# Altium integrated library Diodes - TVS.IntLib: 5379 symbols (part 117 of 122)
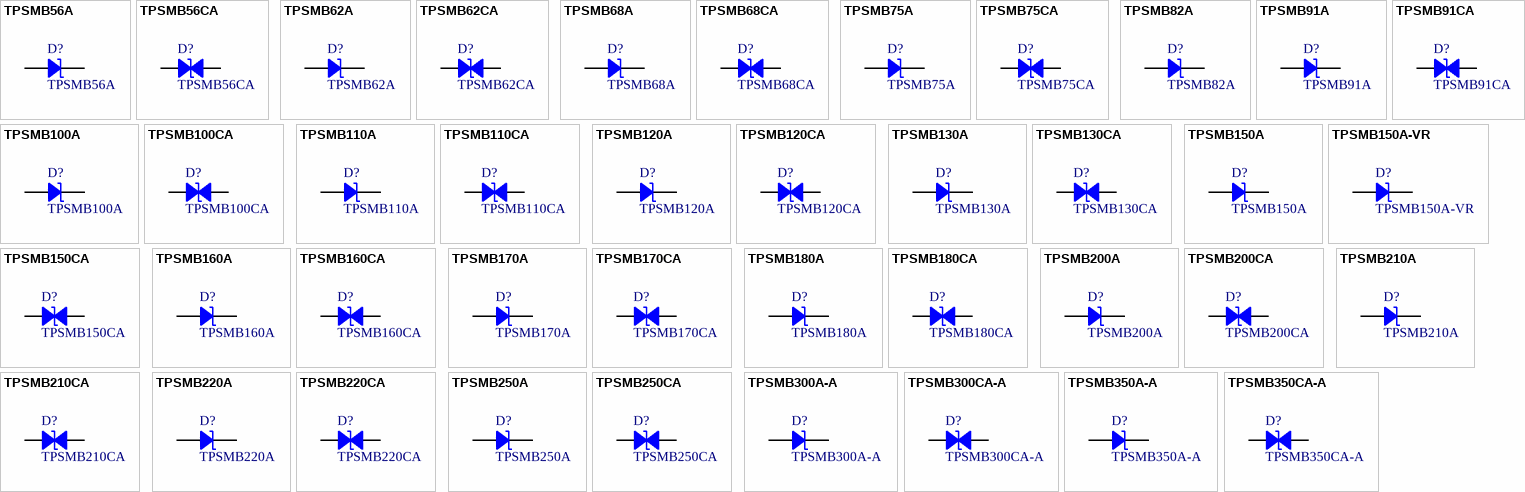
[diagram p250: symbols TPSMB56A to TPSMB350CA-A]

## TPSMB220CA
designator D?
TVS DIODE 185V 328V DO214AA; Manufacturer: Littelfuse Inc.; Bidirectional Channels: 1; Current - Peak Pulse (10/1000µs): 1.9A; Power Line Protection: No; Power - Peak Pulse: 600W; Type: Zener; Voltage - Breakdown (Min): 209V; Part Number: TPSMB220CA; Applications: Automotive; ComponentLink1Description: Datasheet; ComponentLink1URL: https://www.littelfuse.com/~/media/electronics/datasheets/tvs_diodes/littelfuse_tvs_diode_tpsmb_datasheet.pdf.pdf; ComponentLink2Description: DigiKey Link; ComponentLink2URL: http://digikey.com/product-detail/en/littelfuse-inc/TPSMB220CA/F10359CT-ND/7789876; LastUpdated: 9/2/2020 1:28:21 AM; Lifecycle Status: Active; Minimum Order: 1; Mounting Type: Surface Mount; Operating Temperature: -65°C ~ 150°C (TJ); Package / Case: DO-214AA, SMB; Packaging: TapeAndReel; PartId: 9587; Part Status: Active; Price: 0.29; Series: Automotive, AEC-Q101, TPSMB; Supplier 1: DigiKey; Supplier Part Number 1: F10359CT-ND; Supplier Device Package: DO-214AA (SMBJ); Voltage - Clamping (Max) @ Ipp: 328V; Voltage - Reverse Standoff (Typ): 185V
footprint DO214AA SMB
pins: 1, 2

## TPSMB250A
designator D?
TVS DIODE 214V 344V DO214AA; Manufacturer: Littelfuse Inc.; Current - Peak Pulse (10/1000µs): 1.8A; Power Line Protection: No; Power - Peak Pulse: 600W; Type: Zener; Unidirectional Channels: 1; Voltage - Breakdown (Min): 237V; Part Number: TPSMB250A; Applications: Automotive; ComponentLink1Description: Datasheet; ComponentLink1URL: https://www.littelfuse.com/~/media/electronics/datasheets/tvs_diodes/littelfuse_tvs_diode_tpsmb_datasheet.pdf.pdf; ComponentLink2Description: DigiKey Link; ComponentLink2URL: http://digikey.com/product-detail/en/littelfuse-inc/TPSMB250A/F10360CT-ND/7789877; LastUpdated: 9/2/2020 1:19:51 AM; Lifecycle Status: Active; Minimum Order: 1; Mounting Type: Surface Mount; Operating Temperature: -65°C ~ 150°C (TJ); Package / Case: DO-214AA, SMB; Packaging: TapeAndReel; PartId: 11354; Part Status: Active; Price: 0.29; Series: Automotive, AEC-Q101, TPSMB; Supplier 1: DigiKey; Supplier Part Number 1: F10360CT-ND; Supplier Device Package: DO-214AA (SMBJ); Voltage - Clamping (Max) @ Ipp: 344V; Voltage - Reverse Standoff (Typ): 214V
footprint DO214AA SMB
pins: 1, 2

## TPSMB250CA
designator D?
TVS DIODE 214V 344V DO214AA; Manufacturer: Littelfuse Inc.; Bidirectional Channels: 1; Current - Peak Pulse (10/1000µs): 1.8A; Power Line Protection: No; Power - Peak Pulse: 600W; Type: Zener; Voltage - Breakdown (Min): 237V; Part Number: TPSMB250CA; Applications: Automotive; ComponentLink1Description: Datasheet; ComponentLink1URL: https://www.littelfuse.com/~/media/electronics/datasheets/tvs_diodes/littelfuse_tvs_diode_tpsmb_datasheet.pdf.pdf; ComponentLink2Description: DigiKey Link; ComponentLink2URL: http://digikey.com/product-detail/en/littelfuse-inc/TPSMB250CA/F10338CT-ND/7789855; LastUpdated: 9/2/2020 1:28:22 AM; Lifecycle Status: Active; Minimum Order: 1; Mounting Type: Surface Mount; Operating Temperature: -65°C ~ 150°C (TJ); Package / Case: DO-214AA, SMB; Packaging: TapeAndReel; PartId: 9632; Part Status: Active; Price: 0.29; Series: Automotive, AEC-Q101, TPSMB; Supplier 1: DigiKey; Supplier Part Number 1: F10338CT-ND; Supplier Device Package: DO-214AA (SMBJ); Voltage - Clamping (Max) @ Ipp: 344V; Voltage - Reverse Standoff (Typ): 214V
footprint DO214AA SMB
pins: 1, 2

## TPSMB300A-A
designator D?
TVS DIODE 256V 414V DO214AA; Manufacturer: Littelfuse Inc.; Current - Peak Pulse (10/1000µs): 1.5A; Power Line Protection: No; Power - Peak Pulse: 600W; Type: Zener; Unidirectional Channels: 1; Voltage - Breakdown (Min): 285V; Part Number: TPSMB300A-A; Applications: Automotive; ComponentLink1Description: Datasheet; ComponentLink1URL: https://www.littelfuse.com/~/media/electronics/datasheets/tvs_diodes/littelfuse_tvs_diode_tpsmb_datasheet.pdf.pdf; ComponentLink2Description: DigiKey Link; ComponentLink2URL: http://digikey.com/product-detail/en/littelfuse-inc/TPSMB300A-A/F10361CT-ND/7789878; LastUpdated: 9/2/2020 1:19:50 AM; Lifecycle Status: Active; Minimum Order: 1; Mounting Type: Surface Mount; Operating Temperature: -65°C ~ 150°C (TJ); Package / Case: DO-214AA, SMB; Packaging: TapeAndReel; PartId: 11281; Part Status: Active; Price: 0.36; Series: Automotive, AEC-Q101, TPSMB; Supplier 1: DigiKey; Supplier Part Number 1: F10361CT-ND; Supplier Device Package: DO-214AA (SMBJ); Voltage - Clamping (Max) @ Ipp: 414V; Voltage - Reverse Standoff (Typ): 256V
footprint DO214AA SMB
pins: 1, 2

## TPSMB300CA-A
designator D?
TVS DIODE 256V 414V DO214AA; Manufacturer: Littelfuse Inc.; Bidirectional Channels: 1; Current - Peak Pulse (10/1000µs): 1.5A; Power Line Protection: No; Power - Peak Pulse: 600W; Type: Zener; Voltage - Breakdown (Min): 285V; Part Number: TPSMB300CA-A; Applications: Automotive; ComponentLink1Description: Datasheet; ComponentLink1URL: https://www.littelfuse.com/~/media/electronics/datasheets/tvs_diodes/littelfuse_tvs_diode_tpsmb_datasheet.pdf.pdf; ComponentLink2Description: DigiKey Link; ComponentLink2URL: http://digikey.com/product-detail/en/littelfuse-inc/TPSMB300CA-A/F10362CT-ND/7789879; LastUpdated: 9/2/2020 1:28:21 AM; Lifecycle Status: Active; Minimum Order: 1; Mounting Type: Surface Mount; Operating Temperature: -65°C ~ 150°C (TJ); Package / Case: DO-214AA, SMB; Packaging: TapeAndReel; PartId: 9575; Part Status: Active; Price: 0.37; Series: Automotive, AEC-Q101, TPSMB; Supplier 1: DigiKey; Supplier Part Number 1: F10362CT-ND; Supplier Device Package: DO-214AA (SMBJ); Voltage - Clamping (Max) @ Ipp: 414V; Voltage - Reverse Standoff (Typ): 256V
footprint DO214AA SMB
pins: 1, 2

## TPSMB350A-A
designator D?
TVS DIODE 300V 482V DO214AA; Manufacturer: Littelfuse Inc.; Current - Peak Pulse (10/1000µs): 1.3A; Power Line Protection: No; Power - Peak Pulse: 600W; Type: Zener; Unidirectional Channels: 1; Voltage - Breakdown (Min): 332V; Part Number: TPSMB350A-A; Applications: Automotive; ComponentLink1Description: Datasheet; ComponentLink1URL: https://www.littelfuse.com/~/media/electronics/datasheets/tvs_diodes/littelfuse_tvs_diode_tpsmb_datasheet.pdf.pdf; ComponentLink2Description: DigiKey Link; ComponentLink2URL: http://digikey.com/product-detail/en/littelfuse-inc/TPSMB350A-A/F10363CT-ND/7789880; LastUpdated: 9/2/2020 1:19:50 AM; Lifecycle Status: Active; Minimum Order: 1; Mounting Type: Surface Mount; Operating Temperature: -65°C ~ 150°C (TJ); Package / Case: DO-214AA, SMB; Packaging: TapeAndReel; PartId: 11274; Part Status: Active; Price: 0.36; Series: Automotive, AEC-Q101, TPSMB; Supplier 1: DigiKey; Supplier Part Number 1: F10363CT-ND; Supplier Device Package: DO-214AA (SMBJ); Voltage - Clamping (Max) @ Ipp: 482V; Voltage - Reverse Standoff (Typ): 300V
footprint DO214AA SMB
pins: 1, 2

## TPSMB350CA-A
designator D?
TVS DIODE 300V 482V DO214AA; Manufacturer: Littelfuse Inc.; Bidirectional Channels: 1; Current - Peak Pulse (10/1000µs): 1.3A; Power Line Protection: No; Power - Peak Pulse: 600W; Type: Zener; Voltage - Breakdown (Min): 332V; Part Number: TPSMB350CA-A; Applications: Automotive; ComponentLink1Description: Datasheet; ComponentLink1URL: https://www.littelfuse.com/~/media/electronics/datasheets/tvs_diodes/littelfuse_tvs_diode_tpsmb_datasheet.pdf.pdf; ComponentLink2Description: DigiKey Link; ComponentLink2URL: http://digikey.com/product-detail/en/littelfuse-inc/TPSMB350CA-A/F10364CT-ND/7789881; LastUpdated: 9/2/2020 1:28:19 AM; Lifecycle Status: Active; Minimum Order: 1; Mounting Type: Surface Mount; Operating Temperature: -65°C ~ 150°C (TJ); Package / Case: DO-214AA, SMB; Packaging: TapeAndReel; PartId: 9310; Part Status: Active; Price: 0.37; Series: Automotive, AEC-Q101, TPSMB; Supplier 1: DigiKey; Supplier Part Number 1: F10364CT-ND; Supplier Device Package: DO-214AA (SMBJ); Voltage - Clamping (Max) @ Ipp: 482V; Voltage - Reverse Standoff (Typ): 300V
footprint DO214AA SMB
pins: 1, 2

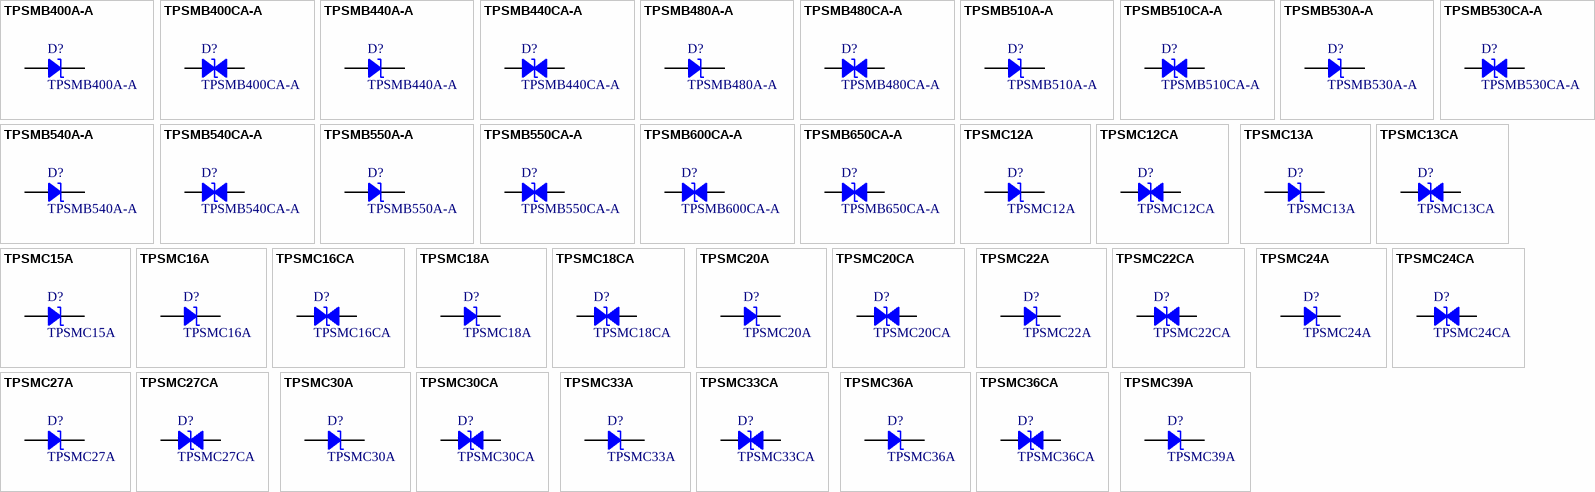
[diagram p129: symbols TPSMB400A-A to TPSMC39A]

## TPSMB400A-A
designator D?
TVS DIODE 5V 548V DO214AA; Manufacturer: Littelfuse Inc.; Current - Peak Pulse (10/1000µs): 1.1A; Power Line Protection: No; Power - Peak Pulse: 600W; Type: Zener; Unidirectional Channels: 1; Voltage - Breakdown (Min): 380V; Voltage - Reverse Standoff (Typ): 342V; Part Number: TPSMB400A-A; Applications: Automotive; ComponentLink1Description: Datasheet; ComponentLink1URL: https://www.littelfuse.com/~/media/electronics/datasheets/tvs_diodes/littelfuse_tvs_diode_tpsmb_datasheet.pdf.pdf; ComponentLink2Description: DigiKey Link; ComponentLink2URL: http://digikey.com/product-detail/en/littelfuse-inc/TPSMB400A-A/F10365CT-ND/7789882; LastUpdated: 9/2/2020 1:19:50 AM; Lifecycle Status: Active; Minimum Order: 1; Mounting Type: Surface Mount; Operating Temperature: -65°C ~ 150°C (TJ); Package / Case: DO-214AA, SMB; Packaging: TapeAndReel; PartId: 11275; Part Status: Active; Price: 0.36; Series: Automotive, AEC-Q101, TPSMB; Supplier 1: DigiKey; Supplier Part Number 1: F10365CT-ND; Supplier Device Package: DO-214AA (SMBJ); Voltage - Clamping (Max) @ Ipp: 548V
footprint DO214AA SMB
pins: 1, 2

## TPSMB400CA-A
designator D?
TVS DIODE 342V 548V DO214AA; Manufacturer: Littelfuse Inc.; Bidirectional Channels: 1; Current - Peak Pulse (10/1000µs): 1.1A; Power Line Protection: No; Power - Peak Pulse: 600W; Type: Zener; Voltage - Breakdown (Min): 380V; Part Number: TPSMB400CA-A; Applications: Automotive; ComponentLink1Description: Datasheet; ComponentLink1URL: https://www.littelfuse.com/~/media/electronics/datasheets/tvs_diodes/littelfuse_tvs_diode_tpsmb_datasheet.pdf.pdf; ComponentLink2Description: DigiKey Link; ComponentLink2URL: http://digikey.com/product-detail/en/littelfuse-inc/TPSMB400CA-A/F10366CT-ND/7789883; LastUpdated: 9/2/2020 1:28:19 AM; Lifecycle Status: Active; Minimum Order: 1; Mounting Type: Surface Mount; Operating Temperature: -65°C ~ 150°C (TJ); Package / Case: DO-214AA, SMB; Packaging: TapeAndReel; PartId: 9307; Part Status: Active; Price: 0.37; Series: Automotive, AEC-Q101, TPSMB; Supplier 1: DigiKey; Supplier Part Number 1: F10366CT-ND; Supplier Device Package: DO-214AA (SMBJ); Voltage - Clamping (Max) @ Ipp: 548V; Voltage - Reverse Standoff (Typ): 342V
footprint DO214AA SMB
pins: 1, 2

## TPSMB440A-A
designator D?
TVS DIODE 5V 602V DO214AA; Manufacturer: Littelfuse Inc.; Current - Peak Pulse (10/1000µs): 1A; Power Line Protection: No; Power - Peak Pulse: 600W; Type: Zener; Unidirectional Channels: 1; Voltage - Breakdown (Min): 418V; Voltage - Reverse Standoff (Typ): 376V; Part Number: TPSMB440A-A; Applications: Automotive; ComponentLink1Description: Datasheet; ComponentLink1URL: https://www.littelfuse.com/~/media/electronics/datasheets/tvs_diodes/littelfuse_tvs_diode_tpsmb_datasheet.pdf.pdf; ComponentLink2Description: DigiKey Link; ComponentLink2URL: http://digikey.com/product-detail/en/littelfuse-inc/TPSMB440A-A/F10339CT-ND/7789856; LastUpdated: 9/2/2020 1:19:50 AM; Lifecycle Status: Active; Minimum Order: 1; Mounting Type: Surface Mount; Operating Temperature: -65°C ~ 150°C (TJ); Package / Case: DO-214AA, SMB; Packaging: TapeAndReel; PartId: 11291; Part Status: Active; Price: 0.36; Series: Automotive, AEC-Q101, TPSMB; Supplier 1: DigiKey; Supplier Part Number 1: F10339CT-ND; Supplier Device Package: DO-214AA (SMBJ); Voltage - Clamping (Max) @ Ipp: 602V
footprint DO214AA SMB
pins: 1, 2

## TPSMB440CA-A
designator D?
TVS DIODE 376V 602V DO214AA; Manufacturer: Littelfuse Inc.; Bidirectional Channels: 1; Current - Peak Pulse (10/1000µs): 1A; Power Line Protection: No; Power - Peak Pulse: 600W; Type: Zener; Voltage - Breakdown (Min): 418V; Part Number: TPSMB440CA-A; Applications: Automotive; ComponentLink1Description: Datasheet; ComponentLink1URL: https://www.littelfuse.com/~/media/electronics/datasheets/tvs_diodes/littelfuse_tvs_diode_tpsmb_datasheet.pdf.pdf; ComponentLink2Description: DigiKey Link; ComponentLink2URL: http://digikey.com/product-detail/en/littelfuse-inc/TPSMB440CA-A/F10367CT-ND/7789884; LastUpdated: 9/2/2020 1:28:19 AM; Lifecycle Status: Active; Minimum Order: 1; Mounting Type: Surface Mount; Operating Temperature: -65°C ~ 150°C (TJ); Package / Case: DO-214AA, SMB; Packaging: TapeAndReel; PartId: 9311; Part Status: Active; Price: 0.37; Series: Automotive, AEC-Q101, TPSMB; Supplier 1: DigiKey; Supplier Part Number 1: F10367CT-ND; Supplier Device Package: DO-214AA (SMBJ); Voltage - Clamping (Max) @ Ipp: 602V; Voltage - Reverse Standoff (Typ): 376V
footprint DO214AA SMB
pins: 1, 2

## TPSMB480A-A
designator D?
TVS DIODE 5V 658V DO214AA; Manufacturer: Littelfuse Inc.; Current - Peak Pulse (10/1000µs): 900mA; Power Line Protection: No; Power - Peak Pulse: 600W; Type: Zener; Unidirectional Channels: 1; Voltage - Breakdown (Min): 456V; Voltage - Reverse Standoff (Typ): 408V; Part Number: TPSMB480A-A; Applications: Automotive; ComponentLink1Description: Datasheet; ComponentLink1URL: https://www.littelfuse.com/~/media/electronics/datasheets/tvs_diodes/littelfuse_tvs_diode_tpsmb_datasheet.pdf.pdf; ComponentLink2Description: DigiKey Link; ComponentLink2URL: http://digikey.com/product-detail/en/littelfuse-inc/TPSMB480A-A/1294-TPSMB480A-A-CHP/10261302; LastUpdated: 9/2/2020 1:19:49 AM; Lifecycle Status: Active; Minimum Order: 3000; Mounting Type: Surface Mount; Operating Temperature: -65°C ~ 150°C (TJ); Package / Case: DO-214AA, SMB; Packaging: TapeAndReel; PartId: 11152; Part Status: Active; Price: 0.28; Series: Automotive, AEC-Q101, TPSMB; Supplier 1: DigiKey; Supplier Part Number 1: 1294-TPSMB480A-A-CHP; Supplier Device Package: DO-214AA (SMBJ); Voltage - Clamping (Max) @ Ipp: 658V
footprint DO214AA SMB
pins: 1, 2

## TPSMB480CA-A
designator D?
TVS DIODE 5V 658V DO214AA; Manufacturer: Littelfuse Inc.; Bidirectional Channels: 1; Current - Peak Pulse (10/1000µs): 900mA; Power Line Protection: No; Power - Peak Pulse: 600W; Type: Zener; Voltage - Breakdown (Min): 456V; Voltage - Reverse Standoff (Typ): 408V; Part Number: TPSMB480CA-A; Applications: Automotive; ComponentLink1Description: Datasheet; ComponentLink1URL: https://www.littelfuse.com/~/media/electronics/datasheets/tvs_diodes/littelfuse_tvs_diode_tpsmb_datasheet.pdf.pdf; ComponentLink2Description: DigiKey Link; ComponentLink2URL: http://digikey.com/product-detail/en/littelfuse-inc/TPSMB480CA-A/F10368CT-ND/7789885; LastUpdated: 9/2/2020 1:28:19 AM; Lifecycle Status: Active; Minimum Order: 1; Mounting Type: Surface Mount; Operating Temperature: -65°C ~ 150°C (TJ); Package / Case: DO-214AA, SMB; Packaging: TapeAndReel; PartId: 9313; Part Status: Active; Price: 0.37; Series: Automotive, AEC-Q101, TPSMB; Supplier 1: DigiKey; Supplier Part Number 1: F10368CT-ND; Supplier Device Package: DO-214AA (SMBJ); Voltage - Clamping (Max) @ Ipp: 658V
footprint DO214AA SMB
pins: 1, 2

## TPSMB510A-A
designator D?
TVS DIODE 5V 698V DO214AA; Manufacturer: Littelfuse Inc.; Current - Peak Pulse (10/1000µs): 900mA; Power Line Protection: No; Power - Peak Pulse: 600W; Type: Zener; Unidirectional Channels: 1; Voltage - Breakdown (Min): 485V; Voltage - Reverse Standoff (Typ): 434V; Part Number: TPSMB510A-A; Applications: Automotive; ComponentLink1Description: Datasheet; ComponentLink1URL: https://www.littelfuse.com/~/media/electronics/datasheets/tvs_diodes/littelfuse_tvs_diode_tpsmb_datasheet.pdf.pdf; ComponentLink2Description: DigiKey Link; ComponentLink2URL: http://digikey.com/product-detail/en/littelfuse-inc/TPSMB510A-A/F10369CT-ND/7789886; LastUpdated: 9/2/2020 1:19:50 AM; Lifecycle Status: Active; Minimum Order: 1; Mounting Type: Surface Mount; Operating Temperature: -65°C ~ 150°C (TJ); Package / Case: DO-214AA, SMB; Packaging: TapeAndReel; PartId: 11279; Part Status: Active; Price: 0.36; Series: Automotive, AEC-Q101, TPSMB; Supplier 1: DigiKey; Supplier Part Number 1: F10369CT-ND; Supplier Device Package: DO-214AA (SMBJ); Voltage - Clamping (Max) @ Ipp: 698V
footprint DO214AA SMB
pins: 1, 2

## TPSMB510CA-A
designator D?
TVS DIODE 5V 698V DO214AA; Manufacturer: Littelfuse Inc.; Bidirectional Channels: 1; Current - Peak Pulse (10/1000µs): 900mA; Power Line Protection: No; Power - Peak Pulse: 600W; Type: Zener; Voltage - Breakdown (Min): 485V; Voltage - Reverse Standoff (Typ): 434V; Part Number: TPSMB510CA-A; Applications: Automotive; ComponentLink1Description: Datasheet; ComponentLink1URL: https://www.littelfuse.com/~/media/electronics/datasheets/tvs_diodes/littelfuse_tvs_diode_tpsmb_datasheet.pdf.pdf; ComponentLink2Description: DigiKey Link; ComponentLink2URL: http://digikey.com/product-detail/en/littelfuse-inc/TPSMB510CA-A/F10370CT-ND/7789887; LastUpdated: 9/2/2020 1:28:19 AM; Lifecycle Status: Active; Minimum Order: 1; Mounting Type: Surface Mount; Operating Temperature: -65°C ~ 150°C (TJ); Package / Case: DO-214AA, SMB; Packaging: CutTape; PartId: 9308; Part Status: Active; Price: 0.88; Series: Automotive, AEC-Q101, TPSMB; Supplier 1: DigiKey; Supplier Part Number 1: F10370CT-ND; Supplier Device Package: DO-214AA (SMBJ); Voltage - Clamping (Max) @ Ipp: 698V
footprint DO214AA SMB
pins: 1, 2

## TPSMB530A-A
designator D?
TVS DIODE 5V 725V DO214AA; Manufacturer: Littelfuse Inc.; Current - Peak Pulse (10/1000µs): 800mA; Power Line Protection: No; Power - Peak Pulse: 600W; Type: Zener; Unidirectional Channels: 1; Voltage - Breakdown (Min): 503.5V; Voltage - Reverse Standoff (Typ): 451V; Part Number: TPSMB530A-A; Applications: Automotive; ComponentLink1Description: Datasheet; ComponentLink1URL: https://www.littelfuse.com/~/media/electronics/datasheets/tvs_diodes/littelfuse_tvs_diode_tpsmb_datasheet.pdf.pdf; ComponentLink2Description: DigiKey Link; ComponentLink2URL: http://digikey.com/product-detail/en/littelfuse-inc/TPSMB530A-A/F10371CT-ND/7789888; LastUpdated: 9/2/2020 1:19:50 AM; Lifecycle Status: Active; Minimum Order: 1; Mounting Type: Surface Mount; Operating Temperature: -65°C ~ 150°C (TJ); Package / Case: DO-214AA, SMB; Packaging: CutTape; PartId: 11280; Part Status: Active; Price: 0.92; Series: Automotive, AEC-Q101, TPSMB; Supplier 1: DigiKey; Supplier Part Number 1: F10371CT-ND; Supplier Device Package: DO-214AA (SMBJ); Voltage - Clamping (Max) @ Ipp: 725V
footprint DO214AA SMB
pins: 1, 2

## TPSMB530CA-A
designator D?
TVS DIODE 5V 725V DO214AA; Manufacturer: Littelfuse Inc.; Bidirectional Channels: 1; Current - Peak Pulse (10/1000µs): 800mA; Power Line Protection: No; Power - Peak Pulse: 600W; Type: Zener; Voltage - Breakdown (Min): 503.5V; Voltage - Reverse Standoff (Typ): 451V; Part Number: TPSMB530CA-A; Applications: Automotive; ComponentLink1Description: Datasheet; ComponentLink1URL: https://www.littelfuse.com/~/media/electronics/datasheets/tvs_diodes/littelfuse_tvs_diode_tpsmb_datasheet.pdf.pdf; ComponentLink2Description: DigiKey Link; ComponentLink2URL: http://digikey.com/product-detail/en/littelfuse-inc/TPSMB530CA-A/F10372CT-ND/7789889; LastUpdated: 9/2/2020 1:28:19 AM; Lifecycle Status: Active; Minimum Order: 1; Mounting Type: Surface Mount; Operating Temperature: -65°C ~ 150°C (TJ); Package / Case: DO-214AA, SMB; Packaging: CutTape; PartId: 9312; Part Status: Active; Price: 0.88; Series: Automotive, AEC-Q101, TPSMB; Supplier 1: DigiKey; Supplier Part Number 1: F10372CT-ND; Supplier Device Package: DO-214AA (SMBJ); Voltage - Clamping (Max) @ Ipp: 725V
footprint DO214AA SMB
pins: 1, 2

## TPSMB540A-A
designator D?
TVS DIODE 5V 740V DO214AA; Manufacturer: Littelfuse Inc.; Current - Peak Pulse (10/1000µs): 800mA; Power Line Protection: No; Power - Peak Pulse: 600W; Type: Zener; Unidirectional Channels: 1; Voltage - Breakdown (Min): 513V; Voltage - Reverse Standoff (Typ): 460V; Part Number: TPSMB540A-A; Applications: Automotive; ComponentLink1Description: Datasheet; ComponentLink1URL: https://www.littelfuse.com/~/media/electronics/datasheets/tvs_diodes/littelfuse_tvs_diode_tpsmb_datasheet.pdf.pdf; ComponentLink2Description: DigiKey Link; ComponentLink2URL: http://digikey.com/product-detail/en/littelfuse-inc/TPSMB540A-A/F10373CT-ND/7789890; LastUpdated: 9/2/2020 1:19:50 AM; Lifecycle Status: Active; Minimum Order: 1; Mounting Type: Surface Mount; Operating Temperature: -65°C ~ 150°C (TJ); Package / Case: DO-214AA, SMB; Packaging: TapeAndReel; PartId: 11273; Part Status: Active; Price: 0.36; Series: Automotive, AEC-Q101, TPSMB; Supplier 1: DigiKey; Supplier Part Number 1: F10373CT-ND; Supplier Device Package: DO-214AA (SMBJ); Voltage - Clamping (Max) @ Ipp: 740V
footprint DO214AA SMB
pins: 1, 2

## TPSMB540CA-A
designator D?
TVS DIODE 5V 740V DO214AA; Manufacturer: Littelfuse Inc.; Bidirectional Channels: 1; Current - Peak Pulse (10/1000µs): 800mA; Power Line Protection: No; Power - Peak Pulse: 600W; Type: Zener; Voltage - Breakdown (Min): 513V; Voltage - Reverse Standoff (Typ): 460V; Part Number: TPSMB540CA-A; Applications: Automotive; ComponentLink1Description: Datasheet; ComponentLink1URL: https://www.littelfuse.com/~/media/electronics/datasheets/tvs_diodes/littelfuse_tvs_diode_tpsmb_datasheet.pdf.pdf; ComponentLink2Description: DigiKey Link; ComponentLink2URL: http://digikey.com/product-detail/en/littelfuse-inc/TPSMB540CA-A/F10374CT-ND/7789891; LastUpdated: 9/2/2020 1:28:19 AM; Lifecycle Status: Active; Minimum Order: 1; Mounting Type: Surface Mount; Operating Temperature: -65°C ~ 150°C (TJ); Package / Case: DO-214AA, SMB; Packaging: TapeAndReel; PartId: 9309; Part Status: Active; Price: 0.37; Series: Automotive, AEC-Q101, TPSMB; Supplier 1: DigiKey; Supplier Part Number 1: F10374CT-ND; Supplier Device Package: DO-214AA (SMBJ); Voltage - Clamping (Max) @ Ipp: 740V
footprint DO214AA SMB
pins: 1, 2

## TPSMB550A-A
designator D?
TVS DIODE 5V 760V DO214AA; Manufacturer: Littelfuse Inc.; Current - Peak Pulse (10/1000µs): 800mA; Power Line Protection: No; Power - Peak Pulse: 600W; Type: Zener; Unidirectional Channels: 1; Voltage - Breakdown (Min): 522.5V; Voltage - Reverse Standoff (Typ): 468V; Part Number: TPSMB550A-A; Applications: Automotive; ComponentLink1Description: Datasheet; ComponentLink1URL: https://www.littelfuse.com/~/media/electronics/datasheets/tvs_diodes/littelfuse_tvs_diode_tpsmb_datasheet.pdf.pdf; ComponentLink2Description: DigiKey Link; ComponentLink2URL: http://digikey.com/product-detail/en/littelfuse-inc/TPSMB550A-A/F10375CT-ND/7789892; LastUpdated: 9/2/2020 1:19:50 AM; Lifecycle Status: Active; Minimum Order: 1; Mounting Type: Surface Mount; Operating Temperature: -65°C ~ 150°C (TJ); Package / Case: DO-214AA, SMB; Packaging: TapeAndReel; PartId: 11290; Part Status: Active; Price: 0.36; Series: Automotive, AEC-Q101, TPSMB; Supplier 1: DigiKey; Supplier Part Number 1: F10375CT-ND; Supplier Device Package: DO-214AA (SMBJ); Voltage - Clamping (Max) @ Ipp: 760V
footprint DO214AA SMB
pins: 1, 2

## TPSMB550CA-A
designator D?
TVS DIODE 5V 760V DO214AA; Manufacturer: Littelfuse Inc.; Bidirectional Channels: 1; Current - Peak Pulse (10/1000µs): 800mA; Power Line Protection: No; Power - Peak Pulse: 600W; Type: Zener; Voltage - Breakdown (Min): 522.5V; Voltage - Reverse Standoff (Typ): 468V; Part Number: TPSMB550CA-A; Applications: Automotive; ComponentLink1Description: Datasheet; ComponentLink1URL: https://www.littelfuse.com/~/media/electronics/datasheets/tvs_diodes/littelfuse_tvs_diode_tpsmb_datasheet.pdf.pdf; ComponentLink2Description: DigiKey Link; ComponentLink2URL: http://digikey.com/product-detail/en/littelfuse-inc/TPSMB550CA-A/F10341CT-ND/7789858; LastUpdated: 9/2/2020 1:28:21 AM; Lifecycle Status: Active; Minimum Order: 1; Mounting Type: Surface Mount; Operating Temperature: -65°C ~ 150°C (TJ); Package / Case: DO-214AA, SMB; Packaging: TapeAndReel; PartId: 9574; Part Status: Active; Price: 0.37; Series: Automotive, AEC-Q101, TPSMB; Supplier 1: DigiKey; Supplier Part Number 1: F10341CT-ND; Supplier Device Package: DO-214AA (SMBJ); Voltage - Clamping (Max) @ Ipp: 760V
footprint DO214AA SMB
pins: 1, 2

## TPSMB600CA-A
designator D?
TVS DIODE 600VBR 828VC DO214AA; Manufacturer: Littelfuse Inc.; Bidirectional Channels: 1; Current - Peak Pulse (10/1000µs): 800mA; Power Line Protection: No; Power - Peak Pulse: 600W; Type: Zener; Voltage - Breakdown (Min): 570V; Voltage - Clamping (Max) @ Ipp: 828V; Voltage - Reverse Standoff (Typ): 511V; Part Number: TPSMB600CA-A; Applications: Automotive; ComponentLink1Description: Datasheet; ComponentLink1URL: https://www.littelfuse.com/~/media/electronics/datasheets/tvs_diodes/littelfuse_tvs_diode_tpsmb_datasheet.pdf.pdf; ComponentLink2Description: DigiKey Link; ComponentLink2URL: http://digikey.com/product-detail/en/littelfuse-inc/TPSMB600CA-A/F11765CT-ND/9682161; LastUpdated: 9/2/2020 1:28:21 AM; Lifecycle Status: Active; Minimum Order: 1; Mounting Type: Surface Mount; Operating Temperature: -65°C ~ 150°C (TJ); Package / Case: DO-214AA, SMB; Packaging: TapeAndReel; PartId: 9568; Part Status: Active; Price: 0.39; Series: Automotive, AEC-Q101, TPSMB; Supplier 1: DigiKey; Supplier Part Number 1: F11765CT-ND; Supplier Device Package: DO-214AA (SMBJ)
footprint DO214AA SMB
pins: 1, 2

## TPSMB650CA-A
designator D?
TVS DIODE 650VBR 897VC DO214AA; Manufacturer: Littelfuse Inc.; Bidirectional Channels: 1; Current - Peak Pulse (10/1000µs): 800mA; Power Line Protection: No; Power - Peak Pulse: 600W; Type: Zener; Voltage - Breakdown (Min): 617.5V; Voltage - Clamping (Max) @ Ipp: 897V; Voltage - Reverse Standoff (Typ): 553V; Part Number: TPSMB650CA-A; Applications: Automotive; ComponentLink1Description: Datasheet; ComponentLink1URL: https://www.littelfuse.com/~/media/electronics/datasheets/tvs_diodes/littelfuse_tvs_diode_tpsmb_datasheet.pdf.pdf; ComponentLink2Description: DigiKey Link; ComponentLink2URL: http://digikey.com/product-detail/en/littelfuse-inc/TPSMB650CA-A/F11766CT-ND/9682162; LastUpdated: 9/2/2020 1:28:21 AM; Lifecycle Status: Active; Minimum Order: 1; Mounting Type: Surface Mount; Operating Temperature: -65°C ~ 150°C (TJ); Package / Case: DO-214AA, SMB; Packaging: TapeAndReel; PartId: 9567; Part Status: Active; Price: 0.39; Series: Automotive, AEC-Q101, TPSMB; Supplier 1: DigiKey; Supplier Part Number 1: F11766CT-ND; Supplier Device Package: DO-214AA (SMBJ)
footprint DO214AA SMB
pins: 1, 2

## TPSMC12A
designator D?
TVS DIODE 10.2V 16.7V DO214AB; Manufacturer: Littelfuse Inc.; Current - Peak Pulse (10/1000µs): 91A; Power Line Protection: No; Power - Peak Pulse: 1500W (1.5kW); Type: Zener; Unidirectional Channels: 1; Voltage - Breakdown (Min): 11.4V; Part Number: TPSMC12A; Applications: Automotive; ComponentLink1Description: Datasheet; ComponentLink1URL: https://www.littelfuse.com/~/media/electronics/datasheets/tvs_diodes/littelfuse_tvs_diode_tpsmc_datasheet.pdf.pdf; ComponentLink2Description: DigiKey Link; ComponentLink2URL: http://digikey.com/product-detail/en/littelfuse-inc/TPSMC12A/F6513CT-ND/5044080; LastUpdated: 9/2/2020 1:20:08 AM; Lifecycle Status: Active; Minimum Order: 1; Mounting Type: Surface Mount; Operating Temperature: -55°C ~ 150°C (TJ); Package / Case: DO-214AB, SMC; Packaging: TapeAndReel; PartId: 7203; Part Status: Active; Price: 0.32; Series: Automotive, AEC-Q101, TPSMC; Supplier 1: DigiKey; Supplier Part Number 1: F6513CT-ND; Supplier Device Package: DO-214AB (SMCJ); Voltage - Clamping (Max) @ Ipp: 16.7V; Voltage - Reverse Standoff (Typ): 10.2V
footprint DO214AB SMC
pins: 1, 2

## TPSMC12CA
designator D?
TVS DIODE 10.2V 16.7V DO214AB; Manufacturer: Littelfuse Inc.; Bidirectional Channels: 1; Current - Peak Pulse (10/1000µs): 91A; Power Line Protection: No; Power - Peak Pulse: 1500W (1.5kW); Type: Zener; Voltage - Breakdown (Min): 11.4V; Part Number: TPSMC12CA; Applications: Automotive; ComponentLink1Description: Datasheet; ComponentLink1URL: https://www.littelfuse.com/~/media/electronics/datasheets/tvs_diodes/littelfuse_tvs_diode_tpsmc_datasheet.pdf.pdf; ComponentLink2Description: DigiKey Link; ComponentLink2URL: http://digikey.com/product-detail/en/littelfuse-inc/TPSMC12CA/F6514CT-ND/5044081; LastUpdated: 9/2/2020 1:28:08 AM; Lifecycle Status: Active; Minimum Order: 1; Mounting Type: Surface Mount; Operating Temperature: -55°C ~ 150°C (TJ); Package / Case: DO-214AB, SMC; Packaging: TapeAndReel; PartId: 8698; Part Status: Active; Price: 0.32; Series: Automotive, AEC-Q101, TPSMC; Supplier 1: DigiKey; Supplier Part Number 1: F6514CT-ND; Supplier Device Package: DO-214AB (SMCJ); Voltage - Clamping (Max) @ Ipp: 16.7V; Voltage - Reverse Standoff (Typ): 10.2V
footprint DO214AB SMC
pins: 1, 2

## TPSMC13A
designator D?
TVS DIODE 11.1V 18.2V DO214AB; Manufacturer: Littelfuse Inc.; Current - Peak Pulse (10/1000µs): 83.5A; Power Line Protection: No; Power - Peak Pulse: 1500W (1.5kW); Type: Zener; Unidirectional Channels: 1; Voltage - Breakdown (Min): 12.4V; Part Number: TPSMC13A; Applications: Automotive; ComponentLink1Description: Datasheet; ComponentLink1URL: https://www.littelfuse.com/~/media/electronics/datasheets/tvs_diodes/littelfuse_tvs_diode_tpsmc_datasheet.pdf.pdf; ComponentLink2Description: DigiKey Link; ComponentLink2URL: http://digikey.com/product-detail/en/littelfuse-inc/TPSMC13A/F6515CT-ND/5044082; LastUpdated: 9/2/2020 1:20:07 AM; Lifecycle Status: Active; Minimum Order: 1; Mounting Type: Surface Mount; Operating Temperature: -55°C ~ 150°C (TJ); Package / Case: DO-214AB, SMC; Packaging: TapeAndReel; PartId: 7193; Part Status: Active; Price: 0.32; Series: Automotive, AEC-Q101, TPSMC; Supplier 1: DigiKey; Supplier Part Number 1: F6515CT-ND; Supplier Device Package: DO-214AB (SMCJ); Voltage - Clamping (Max) @ Ipp: 18.2V; Voltage - Reverse Standoff (Typ): 11.1V
footprint DO214AB SMC
pins: 1, 2

## TPSMC13CA
designator D?
TVS DIODE 11.1V 18.2V DO214AB; Manufacturer: Littelfuse Inc.; Bidirectional Channels: 1; Current - Peak Pulse (10/1000µs): 83.5A; Power Line Protection: No; Power - Peak Pulse: 1500W (1.5kW); Type: Zener; Voltage - Breakdown (Min): 12.4V; Part Number: TPSMC13CA; Applications: Automotive; ComponentLink1Description: Datasheet; ComponentLink1URL: https://www.littelfuse.com/~/media/electronics/datasheets/tvs_diodes/littelfuse_tvs_diode_tpsmc_datasheet.pdf.pdf; ComponentLink2Description: DigiKey Link; ComponentLink2URL: http://digikey.com/product-detail/en/littelfuse-inc/TPSMC13CA/F6516CT-ND/5044083; LastUpdated: 9/2/2020 1:28:08 AM; Lifecycle Status: Active; Minimum Order: 1; Mounting Type: Surface Mount; Operating Temperature: -55°C ~ 150°C (TJ); Package / Case: DO-214AB, SMC; Packaging: TapeAndReel; PartId: 8695; Part Status: Active; Price: 0.32; Series: Automotive, AEC-Q101, TPSMC; Supplier 1: DigiKey; Supplier Part Number 1: F6516CT-ND; Supplier Device Package: DO-214AB (SMCJ); Voltage - Clamping (Max) @ Ipp: 18.2V; Voltage - Reverse Standoff (Typ): 11.1V
footprint DO214AB SMC
pins: 1, 2

## TPSMC15A
designator D?
TVS DIODE 12.8V 21.2V DO214AB; Manufacturer: Littelfuse Inc.; Current - Peak Pulse (10/1000µs): 71.7A; Power Line Protection: No; Power - Peak Pulse: 1500W (1.5kW); Type: Zener; Unidirectional Channels: 1; Voltage - Breakdown (Min): 14.3V; Part Number: TPSMC15A; Applications: Automotive; ComponentLink1Description: Datasheet; ComponentLink1URL: https://www.littelfuse.com/~/media/electronics/datasheets/tvs_diodes/littelfuse_tvs_diode_tpsmc_datasheet.pdf.pdf; ComponentLink2Description: DigiKey Link; ComponentLink2URL: http://digikey.com/product-detail/en/littelfuse-inc/TPSMC15A/F6517CT-ND/5044084; LastUpdated: 9/2/2020 1:20:08 AM; Lifecycle Status: Active; Minimum Order: 1; Mounting Type: Surface Mount; Operating Temperature: -55°C ~ 150°C (TJ); Package / Case: DO-214AB, SMC; Packaging: TapeAndReel; PartId: 7204; Part Status: Active; Price: 0.32; Series: Automotive, AEC-Q101, TPSMC; Supplier 1: DigiKey; Supplier Part Number 1: F6517CT-ND; Supplier Device Package: DO-214AB (SMCJ); Voltage - Clamping (Max) @ Ipp: 21.2V; Voltage - Reverse Standoff (Typ): 12.8V
footprint DO214AB SMC
pins: 1, 2

## TPSMC16A
designator D?
TVS DIODE 13.6V 22.5V DO214AB; Manufacturer: Littelfuse Inc.; Current - Peak Pulse (10/1000µs): 67.6A; Power Line Protection: No; Power - Peak Pulse: 1500W (1.5kW); Type: Zener; Unidirectional Channels: 1; Voltage - Breakdown (Min): 15.2V; Part Number: TPSMC16A; Applications: Automotive; ComponentLink1Description: Datasheet; ComponentLink1URL: https://www.littelfuse.com/~/media/electronics/datasheets/tvs_diodes/littelfuse_tvs_diode_tpsmc_datasheet.pdf.pdf; ComponentLink2Description: DigiKey Link; ComponentLink2URL: http://digikey.com/product-detail/en/littelfuse-inc/TPSMC16A/F6519CT-ND/5044086; LastUpdated: 9/2/2020 1:20:07 AM; Lifecycle Status: Active; Minimum Order: 1; Mounting Type: Surface Mount; Operating Temperature: -55°C ~ 150°C (TJ); Package / Case: DO-214AB, SMC; Packaging: TapeAndReel; PartId: 7192; Part Status: Active; Price: 0.32; Series: Automotive, AEC-Q101, TPSMC; Supplier 1: DigiKey; Supplier Part Number 1: F6519CT-ND; Supplier Device Package: DO-214AB (SMCJ); Voltage - Clamping (Max) @ Ipp: 22.5V; Voltage - Reverse Standoff (Typ): 13.6V
footprint DO214AB SMC
pins: 1, 2

## TPSMC16CA
designator D?
TVS DIODE 13.6V 22.5V DO214AB; Manufacturer: Littelfuse Inc.; Bidirectional Channels: 1; Current - Peak Pulse (10/1000µs): 67.6A; Power Line Protection: No; Power - Peak Pulse: 1500W (1.5kW); Type: Zener; Voltage - Breakdown (Min): 15.2V; Part Number: TPSMC16CA; Applications: Automotive; ComponentLink1Description: Datasheet; ComponentLink1URL: https://www.littelfuse.com/~/media/electronics/datasheets/tvs_diodes/littelfuse_tvs_diode_tpsmc_datasheet.pdf.pdf; ComponentLink2Description: DigiKey Link; ComponentLink2URL: http://digikey.com/product-detail/en/littelfuse-inc/TPSMC16CA/F6520CT-ND/5044087; LastUpdated: 9/2/2020 1:28:08 AM; Lifecycle Status: Active; Minimum Order: 1; Mounting Type: Surface Mount; Operating Temperature: -55°C ~ 150°C (TJ); Package / Case: DO-214AB, SMC; Packaging: TapeAndReel; PartId: 8699; Part Status: Active; Price: 0.32; Series: Automotive, AEC-Q101, TPSMC; Supplier 1: DigiKey; Supplier Part Number 1: F6520CT-ND; Supplier Device Package: DO-214AB (SMCJ); Voltage - Clamping (Max) @ Ipp: 22.5V; Voltage - Reverse Standoff (Typ): 13.6V
footprint DO214AB SMC
pins: 1, 2

## TPSMC18A
designator D?
TVS DIODE 15.3V 25.2V DO214AB; Manufacturer: Littelfuse Inc.; Current - Peak Pulse (10/1000µs): 60.3A; Power Line Protection: No; Power - Peak Pulse: 1500W (1.5kW); Type: Zener; Unidirectional Channels: 1; Voltage - Breakdown (Min): 17.1V; Part Number: TPSMC18A; Applications: Automotive; ComponentLink1Description: Datasheet; ComponentLink1URL: https://www.littelfuse.com/~/media/electronics/datasheets/tvs_diodes/littelfuse_tvs_diode_tpsmc_datasheet.pdf.pdf; ComponentLink2Description: DigiKey Link; ComponentLink2URL: http://digikey.com/product-detail/en/littelfuse-inc/TPSMC18A/F6521CT-ND/5044088; LastUpdated: 9/2/2020 1:20:07 AM; Lifecycle Status: Active; Minimum Order: 1; Mounting Type: Surface Mount; Operating Temperature: -55°C ~ 150°C (TJ); Package / Case: DO-214AB, SMC; Packaging: TapeAndReel; PartId: 7191; Part Status: Active; Price: 0.31; Series: Automotive, AEC-Q101, TPSMC; Supplier 1: DigiKey; Supplier Part Number 1: F6521CT-ND; Supplier Device Package: DO-214AB (SMCJ); Voltage - Clamping (Max) @ Ipp: 25.2V; Voltage - Reverse Standoff (Typ): 15.3V
footprint DO214AB SMC
pins: 1, 2

## TPSMC18CA
designator D?
TVS DIODE 15.3V 25.2V DO214AB; Manufacturer: Littelfuse Inc.; Bidirectional Channels: 1; Current - Peak Pulse (10/1000µs): 60.3A; Power Line Protection: No; Power - Peak Pulse: 1500W (1.5kW); Type: Zener; Voltage - Breakdown (Min): 17.1V; Part Number: TPSMC18CA; Applications: Automotive; ComponentLink1Description: Datasheet; ComponentLink1URL: https://www.littelfuse.com/~/media/electronics/datasheets/tvs_diodes/littelfuse_tvs_diode_tpsmc_datasheet.pdf.pdf; ComponentLink2Description: DigiKey Link; ComponentLink2URL: http://digikey.com/product-detail/en/littelfuse-inc/TPSMC18CA/F6522CT-ND/5044089; LastUpdated: 9/2/2020 1:28:08 AM; Lifecycle Status: Active; Minimum Order: 1; Mounting Type: Surface Mount; Operating Temperature: -55°C ~ 150°C (TJ); Package / Case: DO-214AB, SMC; Packaging: TapeAndReel; PartId: 8664; Part Status: Active; Price: 0.32; Series: Automotive, AEC-Q101, TPSMC; Supplier 1: DigiKey; Supplier Part Number 1: F6522CT-ND; Supplier Device Package: DO-214AB (SMCJ); Voltage - Clamping (Max) @ Ipp: 25.2V; Voltage - Reverse Standoff (Typ): 15.3V
footprint DO214AB SMC
pins: 1, 2

## TPSMC20A
designator D?
TVS DIODE 17.1V 27.7V DO214AB; Manufacturer: Littelfuse Inc.; Current - Peak Pulse (10/1000µs): 54.9A; Power Line Protection: No; Power - Peak Pulse: 1500W (1.5kW); Type: Zener; Unidirectional Channels: 1; Voltage - Breakdown (Min): 19V; Part Number: TPSMC20A; Applications: Automotive; ComponentLink1Description: Datasheet; ComponentLink1URL: https://www.littelfuse.com/~/media/electronics/datasheets/tvs_diodes/littelfuse_tvs_diode_tpsmc_datasheet.pdf.pdf; ComponentLink2Description: DigiKey Link; ComponentLink2URL: http://digikey.com/product-detail/en/littelfuse-inc/TPSMC20A/F6523CT-ND/5044090; LastUpdated: 9/2/2020 1:20:07 AM; Lifecycle Status: Active; Minimum Order: 1; Mounting Type: Surface Mount; Operating Temperature: -55°C ~ 150°C (TJ); Package / Case: DO-214AB, SMC; Packaging: CutTape; PartId: 7196; Part Status: Active; Price: 0.83; Series: Automotive, AEC-Q101, TPSMC; Supplier 1: DigiKey; Supplier Part Number 1: F6523CT-ND; Supplier Device Package: DO-214AB (SMCJ); Voltage - Clamping (Max) @ Ipp: 27.7V; Voltage - Reverse Standoff (Typ): 17.1V
footprint DO214AB SMC
pins: 1, 2

## TPSMC20CA
designator D?
TVS DIODE 17.1V 27.7V DO214AB; Manufacturer: Littelfuse Inc.; Bidirectional Channels: 1; Current - Peak Pulse (10/1000µs): 54.9A; Power Line Protection: No; Power - Peak Pulse: 1500W (1.5kW); Type: Zener; Voltage - Breakdown (Min): 19V; Part Number: TPSMC20CA; Applications: Automotive; ComponentLink1Description: Datasheet; ComponentLink1URL: https://www.littelfuse.com/~/media/electronics/datasheets/tvs_diodes/littelfuse_tvs_diode_tpsmc_datasheet.pdf.pdf; ComponentLink2Description: DigiKey Link; ComponentLink2URL: http://digikey.com/product-detail/en/littelfuse-inc/TPSMC20CA/F6524CT-ND/5044091; LastUpdated: 9/2/2020 1:28:08 AM; Lifecycle Status: Active; Minimum Order: 1; Mounting Type: Surface Mount; Operating Temperature: -55°C ~ 150°C (TJ); Package / Case: DO-214AB, SMC; Packaging: TapeAndReel; PartId: 8691; Part Status: Active; Price: 0.32; Series: Automotive, AEC-Q101, TPSMC; Supplier 1: DigiKey; Supplier Part Number 1: F6524CT-ND; Supplier Device Package: DO-214AB (SMCJ); Voltage - Clamping (Max) @ Ipp: 27.7V; Voltage - Reverse Standoff (Typ): 17.1V
footprint DO214AB SMC
pins: 1, 2

## TPSMC22A
designator D?
TVS DIODE 18.8V 30.6V DO214AB; Manufacturer: Littelfuse Inc.; Current - Peak Pulse (10/1000µs): 49.7A; Power Line Protection: No; Power - Peak Pulse: 1500W (1.5kW); Type: Zener; Unidirectional Channels: 1; Voltage - Breakdown (Min): 20.9V; Part Number: TPSMC22A; Applications: Automotive; ComponentLink1Description: Datasheet; ComponentLink1URL: https://www.littelfuse.com/~/media/electronics/datasheets/tvs_diodes/littelfuse_tvs_diode_tpsmc_datasheet.pdf.pdf; ComponentLink2Description: DigiKey Link; ComponentLink2URL: http://digikey.com/product-detail/en/littelfuse-inc/TPSMC22A/F6525CT-ND/5044092; LastUpdated: 9/2/2020 1:20:07 AM; Lifecycle Status: Active; Minimum Order: 1; Mounting Type: Surface Mount; Operating Temperature: -55°C ~ 150°C (TJ); Package / Case: DO-214AB, SMC; Packaging: TapeAndReel; PartId: 7188; Part Status: Active; Price: 0.32; Series: Automotive, AEC-Q101, TPSMC; Supplier 1: DigiKey; Supplier Part Number 1: F6525CT-ND; Supplier Device Package: DO-214AB (SMCJ); Voltage - Clamping (Max) @ Ipp: 30.6V; Voltage - Reverse Standoff (Typ): 18.8V
footprint DO214AB SMC
pins: 1, 2

## TPSMC22CA
designator D?
TVS DIODE 18.8V 30.6V DO214AB; Manufacturer: Littelfuse Inc.; Bidirectional Channels: 1; Current - Peak Pulse (10/1000µs): 49.7A; Power Line Protection: No; Power - Peak Pulse: 1500W (1.5kW); Type: Zener; Voltage - Breakdown (Min): 20.9V; Part Number: TPSMC22CA; Applications: Automotive; ComponentLink1Description: Datasheet; ComponentLink1URL: https://www.littelfuse.com/~/media/electronics/datasheets/tvs_diodes/littelfuse_tvs_diode_tpsmc_datasheet.pdf.pdf; ComponentLink2Description: DigiKey Link; ComponentLink2URL: http://digikey.com/product-detail/en/littelfuse-inc/TPSMC22CA/F6526CT-ND/5044093; LastUpdated: 9/2/2020 1:28:08 AM; Lifecycle Status: Active; Minimum Order: 1; Mounting Type: Surface Mount; Operating Temperature: -55°C ~ 150°C (TJ); Package / Case: DO-214AB, SMC; Packaging: TapeAndReel; PartId: 8702; Part Status: Active; Price: 0.32; Series: Automotive, AEC-Q101, TPSMC; Supplier 1: DigiKey; Supplier Part Number 1: F6526CT-ND; Supplier Device Package: DO-214AB (SMCJ); Voltage - Clamping (Max) @ Ipp: 30.6V; Voltage - Reverse Standoff (Typ): 18.8V
footprint DO214AB SMC
pins: 1, 2

## TPSMC24A
designator D?
TVS DIODE 20.5V 33.2V DO214AB; Manufacturer: Littelfuse Inc.; Current - Peak Pulse (10/1000µs): 45.8A; Power Line Protection: No; Power - Peak Pulse: 1500W (1.5kW); Type: Zener; Unidirectional Channels: 1; Voltage - Breakdown (Min): 22.8V; Part Number: TPSMC24A; Applications: Automotive; ComponentLink1Description: Datasheet; ComponentLink1URL: https://www.littelfuse.com/~/media/electronics/datasheets/tvs_diodes/littelfuse_tvs_diode_tpsmc_datasheet.pdf.pdf; ComponentLink2Description: DigiKey Link; ComponentLink2URL: http://digikey.com/product-detail/en/littelfuse-inc/TPSMC24A/F6527CT-ND/5044094; LastUpdated: 9/2/2020 1:20:08 AM; Lifecycle Status: Active; Minimum Order: 1; Mounting Type: Surface Mount; Operating Temperature: -55°C ~ 150°C (TJ); Package / Case: DO-214AB, SMC; Packaging: TapeAndReel; PartId: 7201; Part Status: Active; Price: 0.32; Series: Automotive, AEC-Q101, TPSMC; Supplier 1: DigiKey; Supplier Part Number 1: F6527CT-ND; Supplier Device Package: DO-214AB (SMCJ); Voltage - Clamping (Max) @ Ipp: 33.2V; Voltage - Reverse Standoff (Typ): 20.5V
footprint DO214AB SMC
pins: 1, 2

## TPSMC24CA
designator D?
TVS DIODE 20.5V 33.2V DO214AB; Manufacturer: Littelfuse Inc.; Bidirectional Channels: 1; Current - Peak Pulse (10/1000µs): 45.8A; Power Line Protection: No; Power - Peak Pulse: 1500W (1.5kW); Type: Zener; Voltage - Breakdown (Min): 22.8V; Part Number: TPSMC24CA; Applications: Automotive; ComponentLink1Description: Datasheet; ComponentLink1URL: https://www.littelfuse.com/~/media/electronics/datasheets/tvs_diodes/littelfuse_tvs_diode_tpsmc_datasheet.pdf.pdf; ComponentLink2Description: DigiKey Link; ComponentLink2URL: http://digikey.com/product-detail/en/littelfuse-inc/TPSMC24CA/F6528CT-ND/5044095; LastUpdated: 9/2/2020 1:28:05 AM; Lifecycle Status: Active; Minimum Order: 1; Mounting Type: Surface Mount; Operating Temperature: -55°C ~ 150°C (TJ); Package / Case: DO-214AB, SMC; Packaging: TapeAndReel; PartId: 8279; Part Status: Active; Price: 0.32; Series: Automotive, AEC-Q101, TPSMC; Supplier 1: DigiKey; Supplier Part Number 1: F6528CT-ND; Supplier Device Package: DO-214AB (SMCJ); Voltage - Clamping (Max) @ Ipp: 33.2V; Voltage - Reverse Standoff (Typ): 20.5V
footprint DO214AB SMC
pins: 1, 2

## TPSMC27A
designator D?
TVS DIODE 23.1V 37.5V DO214AB; Manufacturer: Littelfuse Inc.; Current - Peak Pulse (10/1000µs): 40.5A; Power Line Protection: No; Power - Peak Pulse: 1500W (1.5kW); Type: Zener; Unidirectional Channels: 1; Voltage - Breakdown (Min): 25.7V; Part Number: TPSMC27A; Applications: Automotive; ComponentLink1Description: Datasheet; ComponentLink1URL: https://www.littelfuse.com/~/media/electronics/datasheets/tvs_diodes/littelfuse_tvs_diode_tpsmc_datasheet.pdf.pdf; ComponentLink2Description: DigiKey Link; ComponentLink2URL: http://digikey.com/product-detail/en/littelfuse-inc/TPSMC27A/F6529CT-ND/5044096; LastUpdated: 9/2/2020 1:20:07 AM; Lifecycle Status: Active; Minimum Order: 1; Mounting Type: Surface Mount; Operating Temperature: -55°C ~ 150°C (TJ); Package / Case: DO-214AB, SMC; Packaging: TapeAndReel; PartId: 7187; Part Status: Active; Price: 0.32; Series: Automotive, AEC-Q101, TPSMC; Supplier 1: DigiKey; Supplier Part Number 1: F6529CT-ND; Supplier Device Package: DO-214AB (SMCJ); Voltage - Clamping (Max) @ Ipp: 37.5V; Voltage - Reverse Standoff (Typ): 23.1V
footprint DO214AB SMC
pins: 1, 2

## TPSMC27CA
designator D?
TVS DIODE 23.1V 37.5V DO214AB; Manufacturer: Littelfuse Inc.; Bidirectional Channels: 1; Current - Peak Pulse (10/1000µs): 40.5A; Power Line Protection: No; Power - Peak Pulse: 1500W (1.5kW); Type: Zener; Voltage - Breakdown (Min): 25.7V; Part Number: TPSMC27CA; Applications: Automotive; ComponentLink1Description: Datasheet; ComponentLink1URL: https://www.littelfuse.com/~/media/electronics/datasheets/tvs_diodes/littelfuse_tvs_diode_tpsmc_datasheet.pdf.pdf; ComponentLink2Description: DigiKey Link; ComponentLink2URL: http://digikey.com/product-detail/en/littelfuse-inc/TPSMC27CA/F6530CT-ND/5044097; LastUpdated: 9/2/2020 1:28:08 AM; Lifecycle Status: Active; Minimum Order: 1; Mounting Type: Surface Mount; Operating Temperature: -55°C ~ 150°C (TJ); Package / Case: DO-214AB, SMC; Packaging: TapeAndReel; PartId: 8690; Part Status: Active; Price: 0.32; Series: Automotive, AEC-Q101, TPSMC; Supplier 1: DigiKey; Supplier Part Number 1: F6530CT-ND; Supplier Device Package: DO-214AB (SMCJ); Voltage - Clamping (Max) @ Ipp: 37.5V; Voltage - Reverse Standoff (Typ): 23.1V
footprint DO214AB SMC
pins: 1, 2

## TPSMC30A
designator D?
TVS DIODE 25.6V 41.4V DO214AB; Manufacturer: Littelfuse Inc.; Current - Peak Pulse (10/1000µs): 36.7A; Power Line Protection: No; Power - Peak Pulse: 1500W (1.5kW); Type: Zener; Unidirectional Channels: 1; Voltage - Breakdown (Min): 28.5V; Part Number: TPSMC30A; Applications: Automotive; ComponentLink1Description: Datasheet; ComponentLink1URL: https://www.littelfuse.com/~/media/electronics/datasheets/tvs_diodes/littelfuse_tvs_diode_tpsmc_datasheet.pdf.pdf; ComponentLink2Description: DigiKey Link; ComponentLink2URL: http://digikey.com/product-detail/en/littelfuse-inc/TPSMC30A/F6531CT-ND/5044098; LastUpdated: 9/2/2020 1:20:07 AM; Lifecycle Status: Active; Minimum Order: 1; Mounting Type: Surface Mount; Operating Temperature: -55°C ~ 150°C (TJ); Package / Case: DO-214AB, SMC; Packaging: TapeAndReel; PartId: 7195; Part Status: Active; Price: 0.32; Series: Automotive, AEC-Q101, TPSMC; Supplier 1: DigiKey; Supplier Part Number 1: F6531CT-ND; Supplier Device Package: DO-214AB (SMCJ); Voltage - Clamping (Max) @ Ipp: 41.4V; Voltage - Reverse Standoff (Typ): 25.6V
footprint DO214AB SMC
pins: 1, 2

## TPSMC30CA
designator D?
TVS DIODE 25.6V 41.4V DO214AB; Manufacturer: Littelfuse Inc.; Bidirectional Channels: 1; Current - Peak Pulse (10/1000µs): 36.7A; Power Line Protection: No; Power - Peak Pulse: 1500W (1.5kW); Type: Zener; Voltage - Breakdown (Min): 28.5V; Part Number: TPSMC30CA; Applications: Automotive; ComponentLink1Description: Datasheet; ComponentLink1URL: https://www.littelfuse.com/~/media/electronics/datasheets/tvs_diodes/littelfuse_tvs_diode_tpsmc_datasheet.pdf.pdf; ComponentLink2Description: DigiKey Link; ComponentLink2URL: http://digikey.com/product-detail/en/littelfuse-inc/TPSMC30CA/F6532CT-ND/5044099; LastUpdated: 9/2/2020 1:28:02 AM; Lifecycle Status: Active; Minimum Order: 1; Mounting Type: Surface Mount; Operating Temperature: -55°C ~ 150°C (TJ); Package / Case: DO-214AB, SMC; Packaging: TapeAndReel; PartId: 8008; Part Status: Active; Price: 0.32; Series: Automotive, AEC-Q101, TPSMC; Supplier 1: DigiKey; Supplier Part Number 1: F6532CT-ND; Supplier Device Package: DO-214AB (SMCJ); Voltage - Clamping (Max) @ Ipp: 41.4V; Voltage - Reverse Standoff (Typ): 25.6V
footprint DO214AB SMC
pins: 1, 2

## TPSMC33A
designator D?
TVS DIODE 28.2V 45.7V DO214AB; Manufacturer: Littelfuse Inc.; Current - Peak Pulse (10/1000µs): 33.3A; Power Line Protection: No; Power - Peak Pulse: 1500W (1.5kW); Type: Zener; Unidirectional Channels: 1; Voltage - Breakdown (Min): 31.4V; Part Number: TPSMC33A; Applications: Automotive; ComponentLink1Description: Datasheet; ComponentLink1URL: https://www.littelfuse.com/~/media/electronics/datasheets/tvs_diodes/littelfuse_tvs_diode_tpsmc_datasheet.pdf.pdf; ComponentLink2Description: DigiKey Link; ComponentLink2URL: http://digikey.com/product-detail/en/littelfuse-inc/TPSMC33A/F6533CT-ND/5044100; LastUpdated: 9/2/2020 1:20:08 AM; Lifecycle Status: Active; Minimum Order: 1; Mounting Type: Surface Mount; Operating Temperature: -55°C ~ 150°C (TJ); Package / Case: DO-214AB, SMC; Packaging: TapeAndReel; PartId: 7198; Part Status: Active; Price: 0.32; Series: Automotive, AEC-Q101, TPSMC; Supplier 1: DigiKey; Supplier Part Number 1: F6533CT-ND; Supplier Device Package: DO-214AB (SMCJ); Voltage - Clamping (Max) @ Ipp: 45.7V; Voltage - Reverse Standoff (Typ): 28.2V
footprint DO214AB SMC
pins: 1, 2

## TPSMC33CA
designator D?
TVS DIODE 28.2V 45.7V DO214AB; Manufacturer: Littelfuse Inc.; Bidirectional Channels: 1; Current - Peak Pulse (10/1000µs): 33.3A; Power Line Protection: No; Power - Peak Pulse: 1500W (1.5kW); Type: Zener; Voltage - Breakdown (Min): 31.4V; Part Number: TPSMC33CA; Applications: Automotive; ComponentLink1Description: Datasheet; ComponentLink1URL: https://www.littelfuse.com/~/media/electronics/datasheets/tvs_diodes/littelfuse_tvs_diode_tpsmc_datasheet.pdf.pdf; ComponentLink2Description: DigiKey Link; ComponentLink2URL: http://digikey.com/product-detail/en/littelfuse-inc/TPSMC33CA/F6534CT-ND/5044101; LastUpdated: 9/2/2020 1:28:08 AM; Lifecycle Status: Active; Minimum Order: 1; Mounting Type: Surface Mount; Operating Temperature: -55°C ~ 150°C (TJ); Package / Case: DO-214AB, SMC; Packaging: TapeAndReel; PartId: 8701; Part Status: Active; Price: 0.32; Series: Automotive, AEC-Q101, TPSMC; Supplier 1: DigiKey; Supplier Part Number 1: F6534CT-ND; Supplier Device Package: DO-214AB (SMCJ); Voltage - Clamping (Max) @ Ipp: 45.7V; Voltage - Reverse Standoff (Typ): 28.2V
footprint DO214AB SMC
pins: 1, 2